# EAGLE library part CAT24C44VI (library Catalyst_Semiconductor_By_element14_Batch_1)
CMOS Static RAM
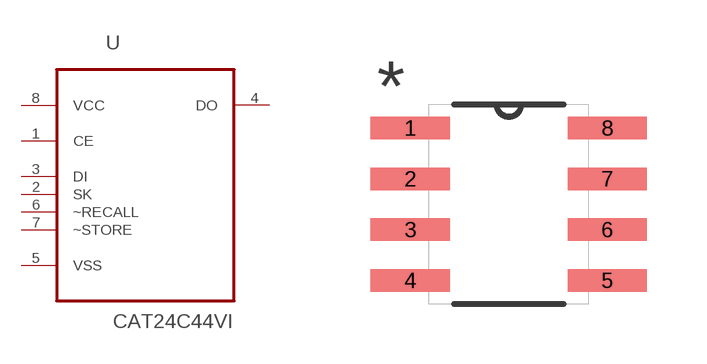
[diagram p7: symbol with the pads of SOIC127P600X175-8N; footprint SOIC127P600X175-8N]

Designator prefix U

## CAT24C44VI (MPN: CAT24C44VI; OC_FARNELL: 1718283; OC_NEWARK: 06R0566; PACKAGE: SOIC-8; SUPPLIER: CATALYST SEMICONDUCTOR)  [SOIC127P600X175-8N]
1  CE  in
2  SK  in
3  DI  in
4  DO  out
5  VSS  pas
6  ~RECALL  in
7  ~STORE  in
8  VCC  pwr

## Footprint SOIC127P600X175-8N (pad centres in mm)
smd 1.981 x 0.559: 1 -2.464,1.905; 2 -2.464,0.635; 3 -2.464,-0.635; 4 -2.464,-1.905; 5 2.464,-1.905; 6 2.464,-0.635; 7 2.464,0.635; 8 2.464,1.905